# EAGLE library part TDA7263 (library Audio-Power-amlifier V.2.0)
The TDA7263 is class AB dual audio power amplifier assembled in the new Clipwatt package, specially designed for high quality sound application as HI-FI music centers and stereo TV sets.
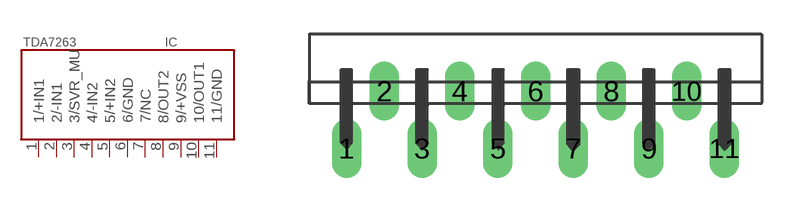
[diagram p185: symbol with the pads of CLIPWATT11; footprint CLIPWATT11]

Designator prefix IC

## TDA7263  [CLIPWATT11]
1  1/+IN1  in
2  2/-IN1  in
3  3/SVR_MU  in
4  4/-IN2  in
5  5/+IN2  in
6  6/GND  pwr
7  7/NC  nc
8  8/OUT2  out
9  9/+VSS  pwr
10  10/OUT1  out
11  11/GND  nc

## Footprint CLIPWATT11 (pad centres in mm)
drill 0.8 long: 1 -8.382,0; 2 -6.706,2.54; 3 -5.029,0; 4 -3.353,2.54; 5 -1.676,0; 6 0,2.54; 7 1.676,0; 8 3.353,2.54; 9 5.029,0; 10 6.706,2.54; 11 8.382,0